# Altium schematic symbol library TB6588FG.SchLib: 1 symbol
Pins are listed as number, name and electrical type; pins without a type are passive.

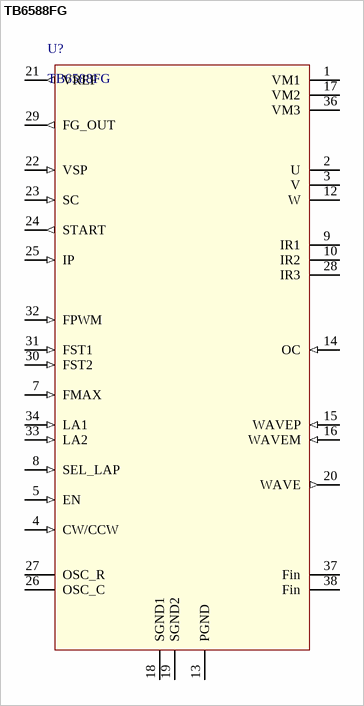
[diagram p0: symbol TB6588FG]

## TB6588FG
designator U?
3-Phase  Full-Wave  PWM  Driver  for  Sensorless  DC  Motors; Value: TB6588FG
footprint HSOP36-450-0.6
pins: 1 VM1 (power), 2 U, 3 V, 4 CW/CCW (in), 5 EN (in), 7 FMAX (in), 8 SEL_LAP (in), 9 IR1, 10 IR2, 12 W, 13 PGND (power), 14 OC (in), 15 WAVEP (in), 16 WAVEM (in), 17 VM2 (power), 18 SGND1 (power), 19 SGND2 (power), 20 WAVE (out), 21 VREF (out), 22 VSP (in), 23 SC (in), 24 START (out), 25 IP (in), 26 OSC_C, 27 OSC_R, 28 IR3, 29 FG_OUT  (out), 30 FST2 (in), 31 FST1 (in), 32 FPWM (in), 33 LA2 (in), 34 LA1 (in), 36 VM3 (power), 37 Fin, 38 Fin